# EAGLE library part AS-ITM-00234 (library tinycircuits)
CONN FPC/FFC 32POS .5MM SMD GOLD
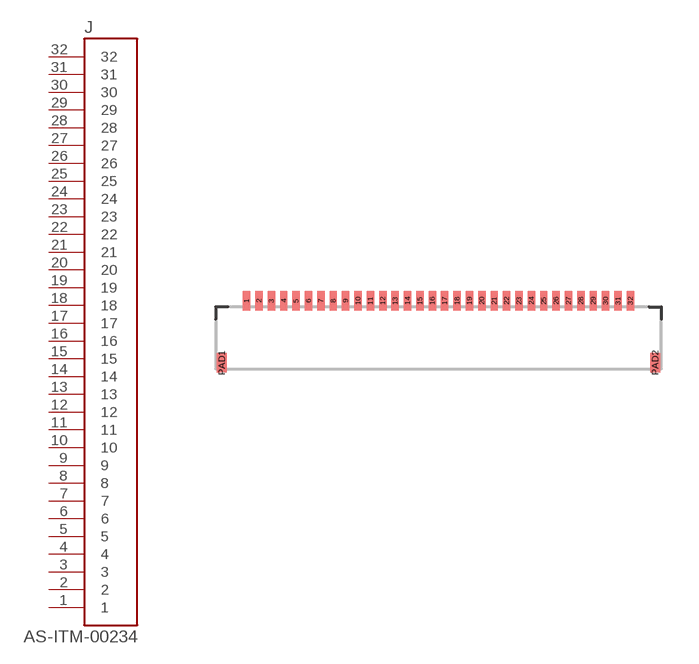
[diagram p98: symbol with the pads of FH19SC-32S-0.5SH; footprint FH19SC-32S-0.5SH]

Designator prefix J

## AS-ITM-00234 (PARTNO: AS-ITM-00234; VALUE: FH19SC-32S-0.5SH)  [FH19SC-32S-0.5SH]
1  1
2  2
3  3
4  4
5  5
6  6
7  7
8  8
9  9
10  10
11  11
12  12
13  13
14  14
15  15
16  16
17  17
18  18
19  19
20  20
21  21
22  22
23  23
24  24
25  25
26  26
27  27
28  28
29  29
30  30
31  31
32  32

## Footprint FH19SC-32S-0.5SH (pad centres in mm)
smd 0.3 x 0.8: 1 -7.75,1.5; 2 -7.25,1.5; 3 -6.75,1.5; 4 -6.25,1.5; 5 -5.75,1.5; 6 -5.25,1.5; 7 -4.75,1.5; 8 -4.25,1.5; 9 -3.75,1.5; 10 -3.25,1.5; 11 -2.75,1.5; 12 -2.25,1.5; 13 -1.75,1.5; 14 -1.25,1.5; 15 -0.75,1.5; 16 -0.25,1.5; 17 0.25,1.5; 18 0.75,1.5; 19 1.25,1.5; 20 1.75,1.5; 21 2.25,1.5; 22 2.75,1.5; 23 3.25,1.5; 24 3.75,1.5; 25 4.25,1.5; 26 4.75,1.5; 27 5.25,1.5; 28 5.75,1.5; 29 6.25,1.5; 30 6.75,1.5; 31 7.25,1.5; 32 7.75,1.5
smd 0.4 x 0.8: PAD1 -8.75,-1; PAD2 8.75,-1